# Altium footprint library stc51.PcbLib: 13 footprints
Each footprint in its own frame and in the unit in brackets; x right, y up, seen from the top. Pads: shape width x height; smd on the part's side, far side on the other; paste and mask are expansions set on the pad; w line width, h text height; cw(c..) or ccw(c..) is an arc to the next point about the centre after c.
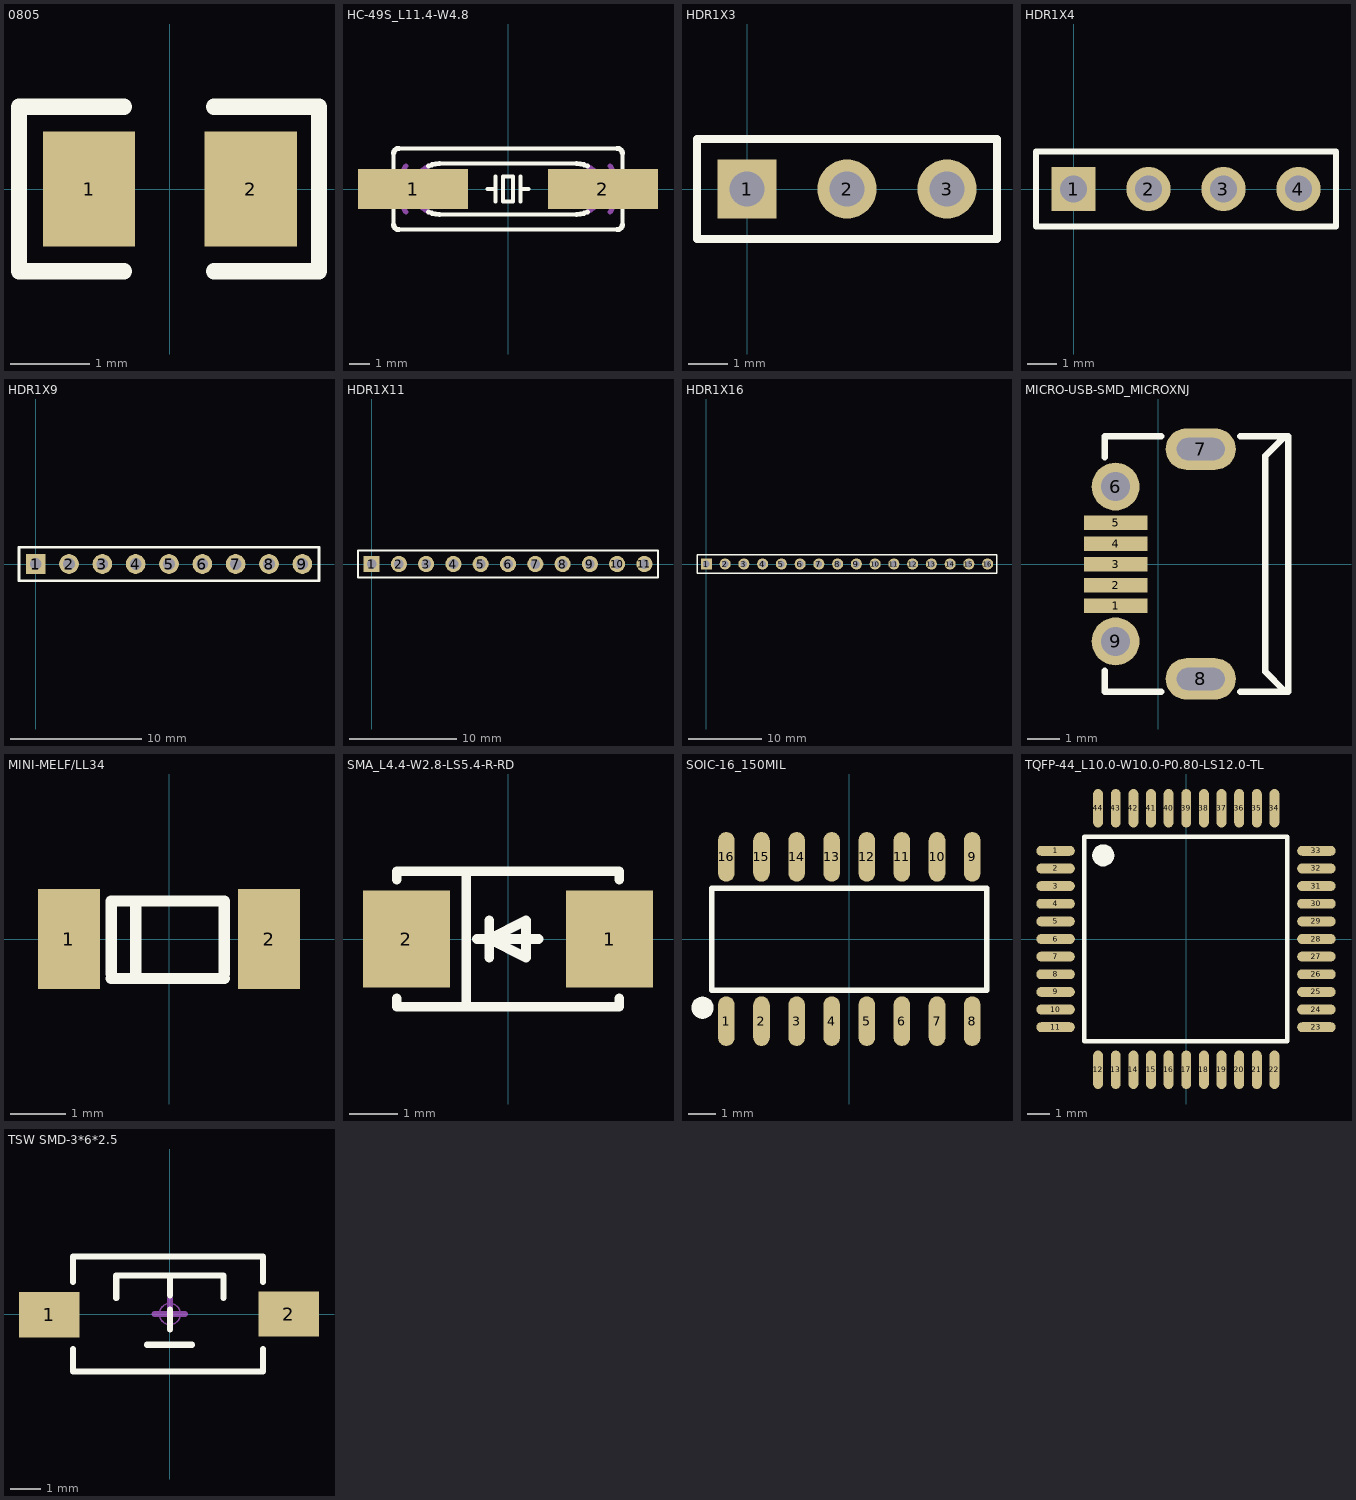
[diagram p0: the footprints below, top view; thin cyan lines are the x and y axes]

## 0805 [mm]
pads (2):
  rect 1.16x1.45 smd: 1(-1.016,0) 2(1.016,0)
Top Overlay:
  lines w0.203: -0.577,-1.035 -1.897,-1.035 -1.897,1.035 -0.577,1.035 ; 0.555,-1.035 1.875,-1.035 1.875,1.035 0.555,1.035

## HC-49S_L11.4-W4.8 [mm]
pads (2):
  rect 5.5x2 smd: 1(-4.75,0) 2(4.75,0)
Top Overlay:
  lines w0.203: -5.715,-1.905 -5.715,-0.889 ; -5.715,0.889 -5.715,1.905 ; -5.461,-2.032 5.461,-2.032 ; -5.461,2.032 5.461,2.032 ; -3.429,-1.27 3.429,-1.27 ; -3.429,1.27 3.429,1.27 ; -1.016,0 -0.635,0 ; -0.635,-0.635 -0.635,0 ; -0.635,0.635 -0.635,0 ; 0.635,-0.635 0.635,0 ; 0.635,0.635 0.635,0 ; 1.016,0 0.635,0 ; 5.715,-1.905 5.715,-0.889 ; 5.715,0.762 5.715,1.778 ; -0.254,-0.635 -0.254,0.635 0.254,0.635 0.254,-0.635 -0.254,-0.635
  lines w0.254: -5.715,-1.778 ccw(c-5.461,-1.778) -5.461,-2.032 ; -5.715,1.778 cw(c-5.461,1.778) -5.461,2.032 ; -3.983,-1.143 ccw(c-3.429,0) -3.429,-1.27 ; -3.983,1.143 cw(c-3.429,0) -3.429,1.27 ; 3.429,-1.27 ccw(c3.429,0) 3.983,-1.143 ; 3.429,1.27 cw(c3.429,0) 3.983,1.143 ; 5.461,-2.032 ccw(c5.461,-1.778) 5.715,-1.778 ; 5.461,2.032 cw(c5.461,1.778) 5.715,1.778
Mechanical 15:
  lines w0.203: -6.477,0.381 -6.477,-0.381 -5.715,-0.381
  lines w0.254: -5.109,-1.143 cw(c-3.429,0) -5.109,1.143 ; -3.983,-1.143 cw(c-3.429,0) -3.983,1.143 ; 3.983,-1.143 ccw(c3.429,0) 3.983,1.143 ; 5.109,-1.143 ccw(c3.429,0) 5.109,1.143

## HDR1X3 [mm] "Connector; Header; 3 Position"
pads (3):
  rect 1.5x1.5 hole 0.9: 1(0,0)
  round 1.5 hole 0.9: 2(2.54,0) 3(5.08,0)
Top Overlay:
  lines w0.203: -1.27,-1.27 -1.27,1.27 6.35,1.27 6.35,-1.27 -1.27,-1.27

## HDR1X4 [mm] "Connector; Header; 4 Position"
pads (4):
  rect 1.5x1.5 hole 0.9: 1(0,0)
  round 1.5 hole 0.9: 2(2.54,0) 3(5.08,0) 4(7.62,0)
Top Overlay:
  lines w0.203: -1.27,-1.27 8.89,-1.27 8.89,1.27 -1.27,1.27 -1.27,-1.27

## HDR1X9 [mm] "Connector; Header; 9 Position"
pads (9):
  rect 1.5x1.5 hole 0.9: 1(0,0)
  round 1.5 hole 0.9: 2(2.54,0) 3(5.08,0) 4(7.62,0) 5(10.16,0) 6(12.7,0) 7(15.24,0) 8(17.78,0) 9(20.32,0)
Top Overlay:
  lines w0.203: -1.27,-1.27 -1.27,1.27 21.59,1.27 21.59,-1.27 -1.27,-1.27

## HDR1X11 [mm] "Connector; Header; 11 Position"
pads (11):
  rect 1.5x1.5 hole 0.9: 1(0,0)
  round 1.5 hole 0.9: 2(2.54,0) 3(5.08,0) 4(7.62,0) 5(10.16,0) 6(12.7,0) 7(15.24,0) 8(17.78,0) 9(20.32,0) 10(22.86,0) 11(25.4,0)
Top Overlay:
  lines w0.203: -1.27,-1.27 26.67,-1.27 26.67,1.27 0.635,1.27 -1.27,1.27 -1.27,-1.27

## HDR1X16 [mm] "Connector; Header; 16 Position"
pads (16):
  rect 1.5x1.5 hole 0.9: 1(0,0)
  round 1.5 hole 0.9: 2(2.54,0) 3(5.08,0) 4(7.62,0) 5(10.16,0) 6(12.7,0) 7(15.24,0) 8(17.78,0) 9(20.32,0) 10(22.86,0) 11(25.4,0) 12(27.94,0) 13(30.48,0) 14(33.02,0) 15(35.56,0) 16(38.1,0)
Top Overlay:
  lines w0.203: -1.27,-1.27 -1.27,1.27 0.635,1.27 39.37,1.27 39.37,-1.27 -1.27,-1.27

## MICRO-USB-SMD_MICROXNJ [mm]
pads (9):
  rect 2x0.45 smd: 1(-1.327,-1.31) 2(-1.327,-0.66) 3(-1.327,-0.01) 4(-1.327,0.64) 5(-1.327,1.29)
  round 1.5 hole 0.9: 6(-1.335,2.425) 9(-1.335,-2.425)
  oval 2.199x1.3 hole 0.7 slot 1.5 at 0 deg: 7(1.335,3.6) 8(1.335,-3.6)
Top Overlay:
  lines w0.203: -1.677,-3.344 -1.677,-4 0.1,-4 ; -1.677,3.344 -1.677,4 0.1,4 ; 2.57,-4 4.052,-4 ; 2.57,4 4.073,4 4.073,-4 ; 4.052,-3.97 3.953,-3.97 3.363,-3.38 3.363,3.39 3.953,3.98 4.073,3.98

## MINI-MELF/LL34 [mm]
pads (2):
  rect 1.118x1.8 smd: 1(-1.8,0) 2(1.8,0)
Top Overlay:
  lines w0.203: -1.045,-0.711 0.995,-0.711 ; -1.045,0.686 0.995,0.686 ; -1.041,-0.63 -1.041,0.635 ; -0.6,-0.66 -0.6,0.6 ; 0.995,-0.63 0.995,0.63

## SMA_L4.4-W2.8-LS5.4-R-RD [mm]
pads (2):
  rect 1.8x2 smd: 1(2.1,0) 2(-2.1,0)
Top Overlay:
  lines w0.203: -2.3,-1.231 -2.3,-1.4 2.3,-1.4 2.3,-1.231 ; -2.3,1.231 -2.3,1.4 2.3,1.4 2.3,1.231 ; -0.864,-1.4 -0.864,1.4 ; -0.643,0 0.627,0 ; -0.389,-0.381 -0.389,0 ; -0.389,0.381 -0.389,0 ; -0.389,0 0.373,-0.381 0.373,0 0.373,0.381 -0.389,0

## SOIC-16_150MIL [mm]
pads (16):
  oval 0.6x1.798 smd: 1(-4.445,-2.972) 2(-3.175,-2.972) 3(-1.905,-2.972) 4(-0.635,-2.972) 5(0.635,-2.972) 6(1.905,-2.972) 7(3.175,-2.972) 8(4.445,-2.972) 9(4.445,2.972) 10(3.175,2.972) 11(1.905,2.972) 12(0.635,2.972) 13(-0.635,2.972) 14(-1.905,2.972) 15(-3.175,2.972) 16(-4.445,2.972)
Top Overlay:
  lines w0.203: -4.976,-1.854 4.976,-1.854 4.976,1.829 -4.976,1.829 -4.976,1.4 -4.976,-1.854
  lines w0.4: -5.309,-2.286 ccw(c-5.307,-2.486) -5.306,-2.286

## TQFP-44_L10.0-W10.0-P0.80-LS12.0-TL [mil]
pads (44):
  oval 68.9x17.72 smd: 1(-233,157.5) 2(-233,126) 3(-233,94.5) 4(-233,63) 5(-233,31.5) 6(-233,0) 7(-233,-31.5) 8(-233,-63) 9(-233,-94.5) 10(-233,-126) 11(-233,-157.5) 23(233,-157.5) 24(233,-126) 25(233,-94.5) 26(233,-63) 27(233,-31.5) 28(233,0) 29(233,31.5) 30(233,63) 31(233,94.5) 32(233,126) 33(233,157.5)
  oval 17.72x68.9 smd: 12(-157,-233.5) 13(-125.5,-233.5) 14(-94,-233.5) 15(-62.5,-233.5) 16(-31,-233.5) 17(0.5,-233.5) 18(32,-233.5) 19(63.5,-233.5) 20(95,-233.5) 21(126.5,-233.5) 22(158,-233.5) 34(158,233.5) 35(126.5,233.5) 36(95,233.5) 37(63.5,233.5) 38(32,233.5) 39(0.5,233.5) 40(-31,233.5) 41(-62.5,233.5) 42(-94,233.5) 43(-125.5,233.5) 44(-157,233.5)
Top Overlay:
  lines w8: -182,-182.5 -182,182.5 171.26,182.5 181,182.5 181,171.76 181,-182.5 -182,-182.5
  lines w19.68: -138,149.3 cw(c-147.84,149.4) -138,149.5

## TSW SMD-3*6*2.5 [mm] "3*6*2.5mm"
pads (2):
  rect 2x1.5 smd: 1(-3.996,-0.02) 2(3.937,0)
Top Overlay:
  lines w0.203: -3.212,-1.168 -3.212,-1.9 3.088,-1.9 3.088,-1.168 ; -3.212,1.067 -3.212,1.9 3.088,1.9 3.088,1.067 ; -1.778,0.533 -1.778,1.27 1.778,1.27 1.778,0.533 ; -0.762,-1.016 0.737,-1.016 ; 0,-0.508 0,0.152 ; 0,0.61 0,1.27
Mechanical 15:
  circle w0.05: c0,0 r0.35
  lines w0.203: -0.5,0 0.5,0 ; 0,-0.5 0,0.5
3D body: height 2.59, standoff -0.03, extent -4,-1.877 4,1.623